# Altium footprint library TR5.PcbLib: 1 footprints
Each footprint in its own frame and in the unit in brackets; x right, y up, seen from the top. Pads: shape width x height; smd on the part's side, far side on the other; paste and mask are expansions set on the pad; w line width, h text height; cw(c..) or ccw(c..) is an arc to the next point about the centre after c.
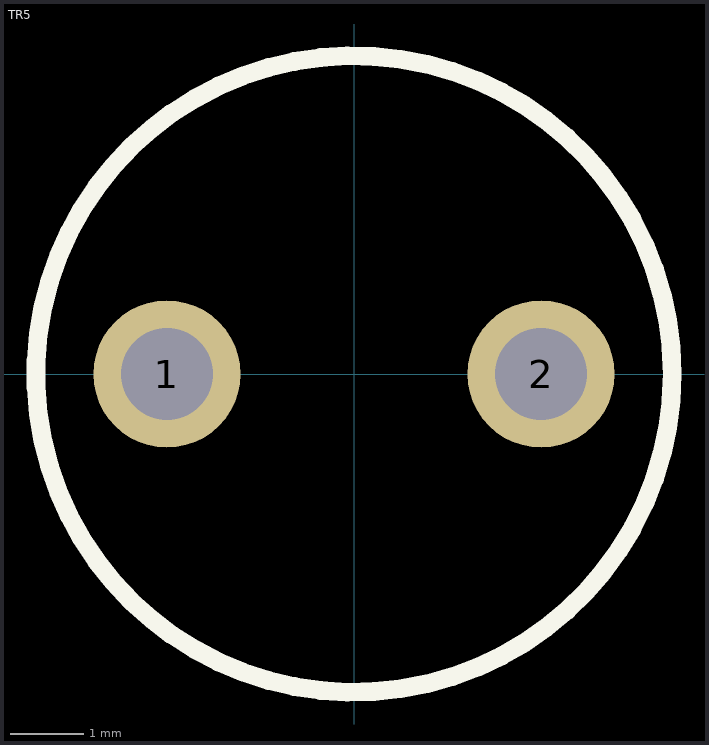
[diagram p0: the footprint, top view; thin cyan lines are the x and y axes]

## TR5 [mm] "Through hole fuse"
height 7.65
pads (2):
  round 2 hole 1.25: 1(-2.54,0) 2(2.54,0)
Top Overlay:
  circle w0.254: c0,0 r4.32
3D body: height 7.65, standoff 0, extent -4.447,-4.447 4.447,4.447